# Altium schematic symbol library DI_LED_RED_DUAL.SchLib: 1 symbol
Pins are listed as number, name and electrical type; pins without a type are passive.

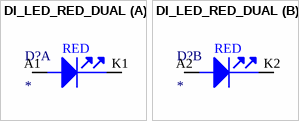
[diagram p0: symbol DI_LED_RED_DUAL]

## DI_LED_RED_DUAL
designator D?
part A pins: A1, K1
part B pins: A2, K2
part A text: RED
part B text: RED